# Altium integrated library Linear Technology Comparators.IntLib: 630 symbols (part 20 of 24)
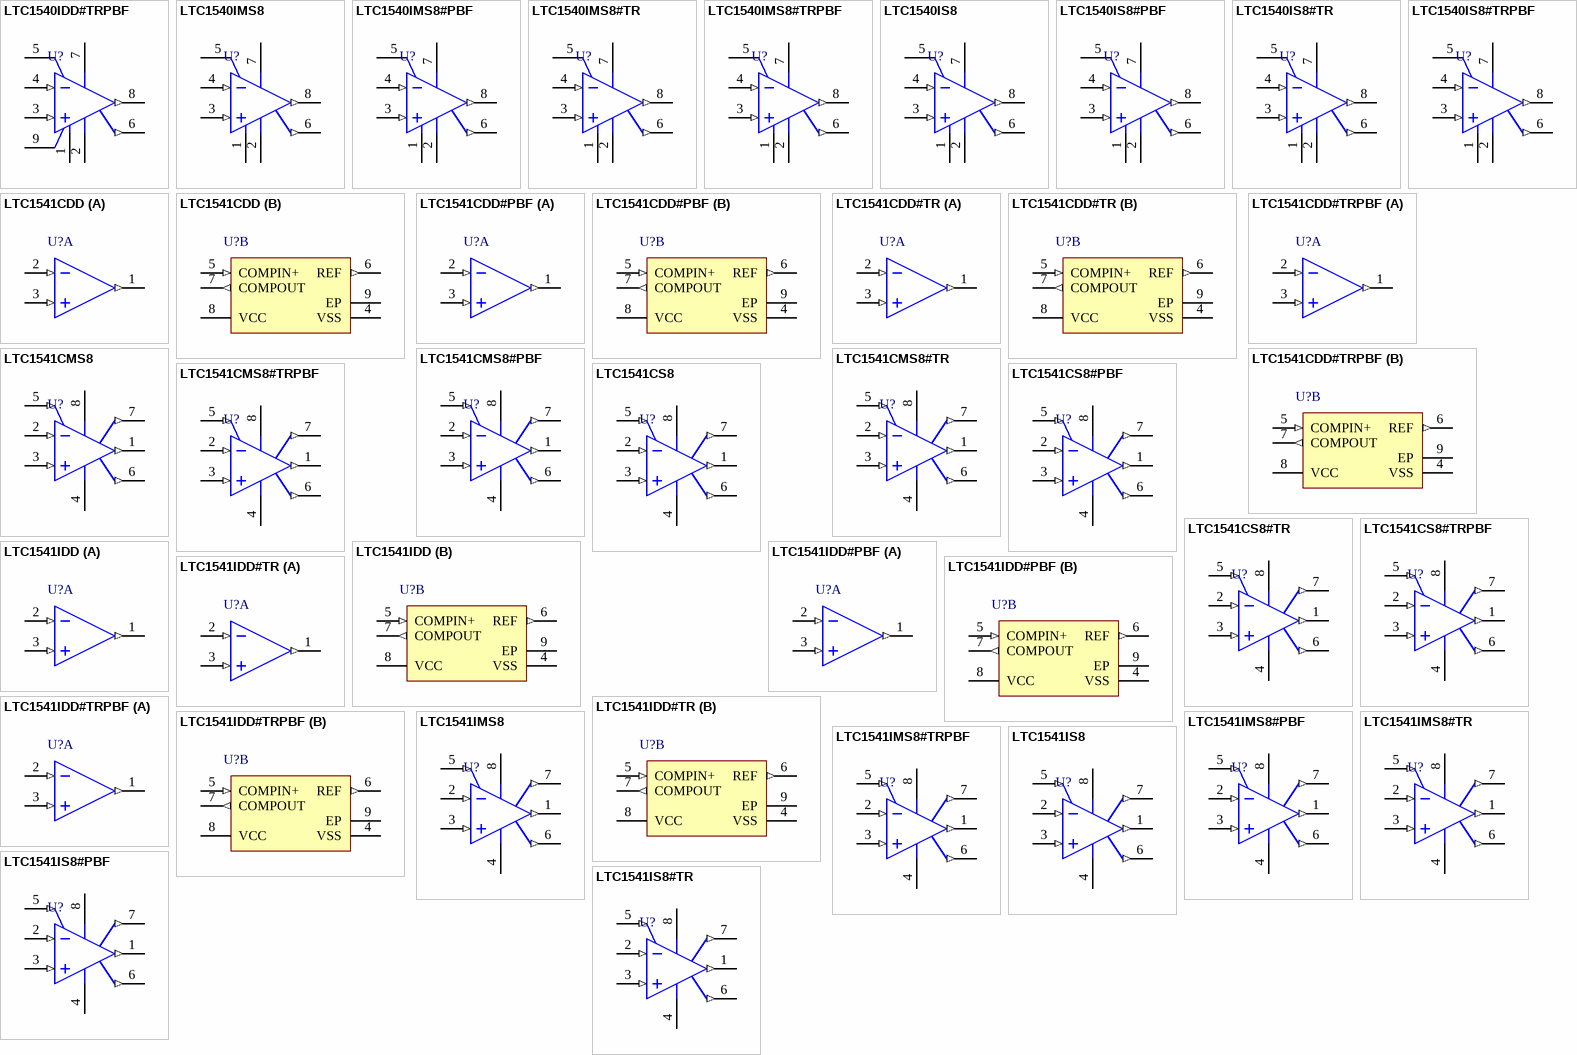
[diagram p43: symbols LTC1540IDD#TRPBF to LTC1541IS8#TR]

## LTC1541CDD#TR
designator U?
Micropower Op Amp, Comparator and Reference, 1 Channel, 2.5 to 12.6 V, 0 to +70 degC, 8-pin Plastic DFN (DD8), Tape and Reel; Generic Part Number: LTC1541; Manufacturer: Linear Technology; PartNumber: LTC1541CDD#TR; Channels (#): 1; Prop Delay (us): 8; Supply Current (uA) Guaranteed: 10; Supply Current (uA) Typical: 5; Vs Max (V): 12.6; Vs Min (V): 2.5; DatasheetVersion: Rev D; PackageReference: DD8; PackageDescription: 8-Pin Plastic DFN, Body 3 × 3 mm, Pitch 0.5 mm; Supplier 1: Digi-Key; Supplier Part Number 1: LTC1541CDD#TR-ND; Features: Reference, Op Amp, Comparator; RoHS: N; Supply Voltage Range: 2.5 to 12.6 V; Vos (mV) Guaranteed: 1; Vos (mV) Typical: 1; Mounting Technology: Surface Mount; Code_JEDEC: M0-229; ComponentLink1Description: Manufacturer URL; ComponentLink1URL: http://www.linear.com/; ComponentLink2Description: Datasheet; ComponentLink2URL: http://cds.linear.com/docs/en/datasheet/15412fd.pdf; ComponentLink3Description: Package Specification; ComponentLink3URL: http://cds.linear.com/docs/en/packaging/DFN_8_05-08-1698.pdf
footprint LT-DD8_V (SON, 8-Leads, Body 3x3mm, Pitch 0.5mm, Thermal Pad 2.38x1.65mm)
part A pins: 1 AMPOUT (out) "Op Amp Output. The output can swing from rail-to-rail while driving a capacitive load of up to 1000pF. The output can source and sink 0.7mA (min).", 2 AMPIN- (in) "Inverting Input of Op Amp. The input common mode ranges from VSS to (VCC - 1.3V). The input current is typically 10pA at 25degreesC.", 3 AMPIN+ (in) "Noninverting Input of Op Amp. The input common mode ranges from VSS to (VCC - 1.3V). The input current is typically 10pA at 25degreesC."
part B pins: 4 VSS (power) "Negative Supply or Ground Connection.", 5 COMPIN+ (in) "Noninverting Input of Comparator. The input common mode ranges from VSS to (VCC - 1.3V). The input current is typically 10pA at 25degreesC.", 6 REF (out) "Reference Output. VREF = 1.2V +/-1% over industrial temperature range, and is also connected to inverting comparator input internally. This device can source up to 2mA and sink up to 20uA. The output can drive a bypass (See Datasheet)", 7 COMPOUT (out) "Comparator Output.The output can source 20mA and sink 5mA.", 8 VCC (power) "Positive Supply, 2.5V =< VCC =< 12.6V. The supply bypass capacitors are not required if the supply impedance is low. For single supply applications, it is a good general practice to bypass VCC with a 0.1uF capacitor to (See Datasheet)", 9 EP "Exposed Pad."

## LTC1541CDD#TRPBF
designator U?
Micropower Op Amp, Comparator and Reference, 1 Channel, 2.5 to 12.6 V, 0 to +70 degC, 8-pin Plastic DFN (DD8), Tape and Reel; Generic Part Number: LTC1541; Manufacturer: Linear Technology; PartNumber: LTC1541CDD#TRPBF; Channels (#): 1; Prop Delay (us): 8; Supply Current (uA) Guaranteed: 10; Supply Current (uA) Typical: 5; Vs Max (V): 12.6; Vs Min (V): 2.5; DatasheetVersion: Rev D; PackageReference: DD8; PackageDescription: 8-Pin Plastic DFN, Body 3 × 3 mm, Pitch 0.5 mm; Supplier 1: Digi-Key; Supplier Part Number 1: LTC1541CDD#TRPBF-ND; Features: Reference, Op Amp, Comparator; RoHS: Y; Supply Voltage Range: 2.5 to 12.6 V; Vos (mV) Guaranteed: 1; Vos (mV) Typical: 1; Mounting Technology: Surface Mount; Code_JEDEC: M0-229; ComponentLink1Description: Manufacturer URL; ComponentLink1URL: http://www.linear.com/; ComponentLink2Description: Datasheet; ComponentLink2URL: http://cds.linear.com/docs/en/datasheet/15412fd.pdf; ComponentLink3Description: Package Specification; ComponentLink3URL: http://cds.linear.com/docs/en/packaging/DFN_8_05-08-1698.pdf
footprint LT-DD8_V (SON, 8-Leads, Body 3x3mm, Pitch 0.5mm, Thermal Pad 2.38x1.65mm)
part A pins: 1 AMPOUT (out) "Op Amp Output. The output can swing from rail-to-rail while driving a capacitive load of up to 1000pF. The output can source and sink 0.7mA (min).", 2 AMPIN- (in) "Inverting Input of Op Amp. The input common mode ranges from VSS to (VCC - 1.3V). The input current is typically 10pA at 25degreesC.", 3 AMPIN+ (in) "Noninverting Input of Op Amp. The input common mode ranges from VSS to (VCC - 1.3V). The input current is typically 10pA at 25degreesC."
part B pins: 4 VSS (power) "Negative Supply or Ground Connection.", 5 COMPIN+ (in) "Noninverting Input of Comparator. The input common mode ranges from VSS to (VCC - 1.3V). The input current is typically 10pA at 25degreesC.", 6 REF (out) "Reference Output. VREF = 1.2V +/-1% over industrial temperature range, and is also connected to inverting comparator input internally. This device can source up to 2mA and sink up to 20uA. The output can drive a bypass (See Datasheet)", 7 COMPOUT (out) "Comparator Output.The output can source 20mA and sink 5mA.", 8 VCC (power) "Positive Supply, 2.5V =< VCC =< 12.6V. The supply bypass capacitors are not required if the supply impedance is low. For single supply applications, it is a good general practice to bypass VCC with a 0.1uF capacitor to (See Datasheet)", 9 EP "Exposed Pad."

## LTC1541CMS8
designator U?
Micropower Op Amp, Comparator and Reference, 1 Channel, 2.5 to 12.6 V, 0 to +70 degC, 8-pin Plastic MSOP (MS8); Generic Part Number: LTC1541; Manufacturer: Linear Technology; PartNumber: LTC1541CMS8; Channels (#): 1; Prop Delay (us): 8; Supply Current (uA) Guaranteed: 10; Supply Current (uA) Typical: 5; Vs Max (V): 12.6; Vs Min (V): 2.5; DatasheetVersion: Rev D; PackageReference: MS8; PackageDescription: 8-Pin Plastic MSOP, Body 3 x 3 mm, Pitch 0.65 mm; Supplier 1: Digi-Key; Supplier Part Number 1: LTC1541CMS8-ND; Features: Reference, Op Amp, Comparator; RoHS: N; Supply Voltage Range: 2.5 to 12.6 V; Vos (mV) Guaranteed: 1; Vos (mV) Typical: 1; Mounting Technology: Surface Mount; ComponentLink1Description: Manufacturer URL; ComponentLink1URL: http://www.linear.com/; ComponentLink2Description: Datasheet; ComponentLink2URL: http://cds.linear.com/docs/en/datasheet/15412fd.pdf; ComponentLink3Description: Package Specification; ComponentLink3URL: http://cds.linear.com/docs/en/packaging/MSOP_8_05-08-1660.pdf
footprint LT-MS8_N (SOP, 8-Leads, Body 3x3mm, Pitch 0.65mm, IPC Medium Density)
footprint LT-MS8_L (SOP, 8-Leads, Body 3x3mm, Pitch 0.65mm, IPC High Density)
footprint LT-MS8_M (SOP, 8-Leads, Body 3x3mm, Pitch 0.65mm, IPC Low Density)
pins: 1 AMPOUT (out), 2 AMPIN- (in), 3 AMPIN+ (in), 4 VSS (power), 5 COMPIN+ (in), 6 REF (out), 7 COMPOUT (out), 8 VCC (power)

## LTC1541CMS8#PBF
designator U?
Micropower Op Amp, Comparator and Reference, 1 Channel, 2.5 to 12.6 V, 0 to +70 degC, 8-pin Plastic MSOP (MS8); Generic Part Number: LTC1541; Manufacturer: Linear Technology; PartNumber: LTC1541CMS8#PBF; Channels (#): 1; Prop Delay (us): 8; Supply Current (uA) Guaranteed: 10; Supply Current (uA) Typical: 5; Vs Max (V): 12.6; Vs Min (V): 2.5; DatasheetVersion: Rev D; PackageReference: MS8; PackageDescription: 8-Pin Plastic MSOP, Body 3 x 3 mm, Pitch 0.65 mm; Supplier 1: Digi-Key; Supplier Part Number 1: LTC1541CMS8#PBF-ND; Features: Reference, Op Amp, Comparator; RoHS: Y; Supply Voltage Range: 2.5 to 12.6 V; Vos (mV) Guaranteed: 1; Vos (mV) Typical: 1; Mounting Technology: Surface Mount; ComponentLink1Description: Manufacturer URL; ComponentLink1URL: http://www.linear.com/; ComponentLink2Description: Datasheet; ComponentLink2URL: http://cds.linear.com/docs/en/datasheet/15412fd.pdf; ComponentLink3Description: Package Specification; ComponentLink3URL: http://cds.linear.com/docs/en/packaging/MSOP_8_05-08-1660.pdf
footprint LT-MS8_N (SOP, 8-Leads, Body 3x3mm, Pitch 0.65mm, IPC Medium Density)
footprint LT-MS8_L (SOP, 8-Leads, Body 3x3mm, Pitch 0.65mm, IPC High Density)
footprint LT-MS8_M (SOP, 8-Leads, Body 3x3mm, Pitch 0.65mm, IPC Low Density)
pins: 1 AMPOUT (out), 2 AMPIN- (in), 3 AMPIN+ (in), 4 VSS (power), 5 COMPIN+ (in), 6 REF (out), 7 COMPOUT (out), 8 VCC (power)

## LTC1541CMS8#TR
designator U?
Micropower Op Amp, Comparator and Reference, 1 Channel, 2.5 to 12.6 V, 0 to +70 degC, 8-pin Plastic MSOP (MS8), Tape and Reel; Generic Part Number: LTC1541; Manufacturer: Linear Technology; PartNumber: LTC1541CMS8#TR; Channels (#): 1; Prop Delay (us): 8; Supply Current (uA) Guaranteed: 10; Supply Current (uA) Typical: 5; Vs Max (V): 12.6; Vs Min (V): 2.5; DatasheetVersion: Rev D; PackageReference: MS8; PackageDescription: 8-Pin Plastic MSOP, Body 3 x 3 mm, Pitch 0.65 mm; Supplier 1: Digi-Key; Supplier Part Number 1: LTC1541CMS8#TR-ND; Features: Reference, Op Amp, Comparator; RoHS: N; Supply Voltage Range: 2.5 to 12.6 V; Vos (mV) Guaranteed: 1; Vos (mV) Typical: 1; Mounting Technology: Surface Mount; ComponentLink1Description: Manufacturer URL; ComponentLink1URL: http://www.linear.com/; ComponentLink2Description: Datasheet; ComponentLink2URL: http://cds.linear.com/docs/en/datasheet/15412fd.pdf; ComponentLink3Description: Package Specification; ComponentLink3URL: http://cds.linear.com/docs/en/packaging/MSOP_8_05-08-1660.pdf
footprint LT-MS8_N (SOP, 8-Leads, Body 3x3mm, Pitch 0.65mm, IPC Medium Density)
footprint LT-MS8_L (SOP, 8-Leads, Body 3x3mm, Pitch 0.65mm, IPC High Density)
footprint LT-MS8_M (SOP, 8-Leads, Body 3x3mm, Pitch 0.65mm, IPC Low Density)
pins: 1 AMPOUT (out), 2 AMPIN- (in), 3 AMPIN+ (in), 4 VSS (power), 5 COMPIN+ (in), 6 REF (out), 7 COMPOUT (out), 8 VCC (power)

## LTC1541CMS8#TRPBF
designator U?
Micropower Op Amp, Comparator and Reference, 1 Channel, 2.5 to 12.6 V, 0 to +70 degC, 8-pin Plastic MSOP (MS8), Tape and Reel; Generic Part Number: LTC1541; Manufacturer: Linear Technology; PartNumber: LTC1541CMS8#TRPBF; Channels (#): 1; Prop Delay (us): 8; Supply Current (uA) Guaranteed: 10; Supply Current (uA) Typical: 5; Vs Max (V): 12.6; Vs Min (V): 2.5; DatasheetVersion: Rev D; PackageReference: MS8; PackageDescription: 8-Pin Plastic MSOP, Body 3 x 3 mm, Pitch 0.65 mm; Supplier 1: Digi-Key; Supplier Part Number 1: LTC1541CMS8#TRPBF-ND; Supplier 2: Newark; Supplier Part Number 2: 56M1887; Features: Reference, Op Amp, Comparator; RoHS: Y; Supply Voltage Range: 2.5 to 12.6 V; Vos (mV) Guaranteed: 1; Vos (mV) Typical: 1; Mounting Technology: Surface Mount; ComponentLink1Description: Manufacturer URL; ComponentLink1URL: http://www.linear.com/; ComponentLink2Description: Datasheet; ComponentLink2URL: http://cds.linear.com/docs/en/datasheet/15412fd.pdf; ComponentLink3Description: Package Specification; ComponentLink3URL: http://cds.linear.com/docs/en/packaging/MSOP_8_05-08-1660.pdf
footprint LT-MS8_N (SOP, 8-Leads, Body 3x3mm, Pitch 0.65mm, IPC Medium Density)
footprint LT-MS8_L (SOP, 8-Leads, Body 3x3mm, Pitch 0.65mm, IPC High Density)
footprint LT-MS8_M (SOP, 8-Leads, Body 3x3mm, Pitch 0.65mm, IPC Low Density)
pins: 1 AMPOUT (out), 2 AMPIN- (in), 3 AMPIN+ (in), 4 VSS (power), 5 COMPIN+ (in), 6 REF (out), 7 COMPOUT (out), 8 VCC (power)

## LTC1541CS8
designator U?
Micropower Op Amp, Comparator and Reference, 1 Channel, 2.5 to 12.6 V, 0 to +70 degC, 8-pin SOP (S8); Generic Part Number: LTC1541; Manufacturer: Linear Technology; PartNumber: LTC1541CS8; Channels (#): 1; Prop Delay (us): 8; Supply Current (uA) Guaranteed: 10; Supply Current (uA) Typical: 5; Vs Max (V): 12.6; Vs Min (V): 2.5; DatasheetVersion: Rev D; PackageReference: S8; PackageDescription: 8-Pin Plastic Small Outline (Narrow .150 Inch), Body 4.9 x 3.9 mm, Pitch 1.27 mm; Supplier 1: Digi-Key; Supplier Part Number 1: LTC1541CS8-ND; Features: Reference, Op Amp, Comparator; RoHS: N; Supply Voltage Range: 2.5 to 12.6 V; Vos (mV) Guaranteed: 1; Vos (mV) Typical: 1; Mounting Technology: Surface Mount; ComponentLink1Description: Manufacturer URL; ComponentLink1URL: http://www.linear.com/; ComponentLink2Description: Datasheet; ComponentLink2URL: http://cds.linear.com/docs/en/datasheet/15412fd.pdf; ComponentLink3Description: Package Specification; ComponentLink3URL: http://cds.linear.com/docs/en/packaging/05081610_G_SO8.pdf
footprint LT-S8_N (SOP, 8-Leads, Body 4.9x3.9mm, Pitch 1.27mm, IPC Medium Density)
footprint LT-S8_L (SOP, 8-Leads, Body 4.9x3.9mm, Pitch 1.27mm, IPC High Density)
footprint LT-S8_M (SOP, 8-Leads, Body 4.9x3.9mm, Pitch 1.27mm, IPC Low Density)
pins: 1 AMPOUT (out), 2 AMPIN- (in), 3 AMPIN+ (in), 4 VSS (power), 5 COMPIN+ (in), 6 REF (out), 7 COMPOUT (out), 8 VCC (power)

## LTC1541CS8#PBF
designator U?
Micropower Op Amp, Comparator and Reference, 1 Channel, 2.5 to 12.6 V, 0 to +70 degC, 8-pin SOP (S8); Generic Part Number: LTC1541; Manufacturer: Linear Technology; PartNumber: LTC1541CS8#PBF; Channels (#): 1; Prop Delay (us): 8; Supply Current (uA) Guaranteed: 10; Supply Current (uA) Typical: 5; Vs Max (V): 12.6; Vs Min (V): 2.5; DatasheetVersion: Rev D; PackageReference: S8; PackageDescription: 8-Pin Plastic Small Outline (Narrow .150 Inch), Body 4.9 x 3.9 mm, Pitch 1.27 mm; Supplier 1: Digi-Key; Supplier Part Number 1: LTC1541CS8#PBF-ND; Supplier 2: Newark; Supplier Part Number 2: 56M1889; Features: Reference, Op Amp, Comparator; RoHS: Y; Supply Voltage Range: 2.5 to 12.6 V; Vos (mV) Guaranteed: 1; Vos (mV) Typical: 1; Mounting Technology: Surface Mount; ComponentLink1Description: Manufacturer URL; ComponentLink1URL: http://www.linear.com/; ComponentLink2Description: Datasheet; ComponentLink2URL: http://cds.linear.com/docs/en/datasheet/15412fd.pdf; ComponentLink3Description: Package Specification; ComponentLink3URL: http://cds.linear.com/docs/en/packaging/05081610_G_SO8.pdf
footprint LT-S8_N (SOP, 8-Leads, Body 4.9x3.9mm, Pitch 1.27mm, IPC Medium Density)
footprint LT-S8_L (SOP, 8-Leads, Body 4.9x3.9mm, Pitch 1.27mm, IPC High Density)
footprint LT-S8_M (SOP, 8-Leads, Body 4.9x3.9mm, Pitch 1.27mm, IPC Low Density)
pins: 1 AMPOUT (out), 2 AMPIN- (in), 3 AMPIN+ (in), 4 VSS (power), 5 COMPIN+ (in), 6 REF (out), 7 COMPOUT (out), 8 VCC (power)

## LTC1541CS8#TR
designator U?
Micropower Op Amp, Comparator and Reference, 1 Channel, 2.5 to 12.6 V, 0 to +70 degC, 8-pin SOP (S8), Tape and Reel; Generic Part Number: LTC1541; Manufacturer: Linear Technology; PartNumber: LTC1541CS8#TR; Channels (#): 1; Prop Delay (us): 8; Supply Current (uA) Guaranteed: 10; Supply Current (uA) Typical: 5; Vs Max (V): 12.6; Vs Min (V): 2.5; DatasheetVersion: Rev D; PackageReference: S8; PackageDescription: 8-Pin Plastic Small Outline (Narrow .150 Inch), Body 4.9 x 3.9 mm, Pitch 1.27 mm; Supplier 1: Digi-Key; Supplier Part Number 1: LTC1541CS8#TR-ND; Features: Reference, Op Amp, Comparator; RoHS: N; Supply Voltage Range: 2.5 to 12.6 V; Vos (mV) Guaranteed: 1; Vos (mV) Typical: 1; Mounting Technology: Surface Mount; ComponentLink1Description: Manufacturer URL; ComponentLink1URL: http://www.linear.com/; ComponentLink2Description: Datasheet; ComponentLink2URL: http://cds.linear.com/docs/en/datasheet/15412fd.pdf; ComponentLink3Description: Package Specification; ComponentLink3URL: http://cds.linear.com/docs/en/packaging/05081610_G_SO8.pdf
footprint LT-S8_N (SOP, 8-Leads, Body 4.9x3.9mm, Pitch 1.27mm, IPC Medium Density)
footprint LT-S8_L (SOP, 8-Leads, Body 4.9x3.9mm, Pitch 1.27mm, IPC High Density)
footprint LT-S8_M (SOP, 8-Leads, Body 4.9x3.9mm, Pitch 1.27mm, IPC Low Density)
pins: 1 AMPOUT (out), 2 AMPIN- (in), 3 AMPIN+ (in), 4 VSS (power), 5 COMPIN+ (in), 6 REF (out), 7 COMPOUT (out), 8 VCC (power)

## LTC1541CS8#TRPBF
designator U?
Micropower Op Amp, Comparator and Reference, 1 Channel, 2.5 to 12.6 V, 0 to +70 degC, 8-pin SOP (S8), Tape and Reel; Generic Part Number: LTC1541; Manufacturer: Linear Technology; PartNumber: LTC1541CS8#TRPBF; Channels (#): 1; Prop Delay (us): 8; Supply Current (uA) Guaranteed: 10; Supply Current (uA) Typical: 5; Vs Max (V): 12.6; Vs Min (V): 2.5; DatasheetVersion: Rev D; PackageReference: S8; PackageDescription: 8-Pin Plastic Small Outline (Narrow .150 Inch), Body 4.9 x 3.9 mm, Pitch 1.27 mm; Supplier 1: Digi-Key; Supplier Part Number 1: LTC1541CS8#TRPBF-ND; Features: Reference, Op Amp, Comparator; RoHS: Y; Supply Voltage Range: 2.5 to 12.6 V; Vos (mV) Guaranteed: 1; Vos (mV) Typical: 1; Mounting Technology: Surface Mount; ComponentLink1Description: Manufacturer URL; ComponentLink1URL: http://www.linear.com/; ComponentLink2Description: Datasheet; ComponentLink2URL: http://cds.linear.com/docs/en/datasheet/15412fd.pdf; ComponentLink3Description: Package Specification; ComponentLink3URL: http://cds.linear.com/docs/en/packaging/05081610_G_SO8.pdf
footprint LT-S8_N (SOP, 8-Leads, Body 4.9x3.9mm, Pitch 1.27mm, IPC Medium Density)
footprint LT-S8_L (SOP, 8-Leads, Body 4.9x3.9mm, Pitch 1.27mm, IPC High Density)
footprint LT-S8_M (SOP, 8-Leads, Body 4.9x3.9mm, Pitch 1.27mm, IPC Low Density)
pins: 1 AMPOUT (out), 2 AMPIN- (in), 3 AMPIN+ (in), 4 VSS (power), 5 COMPIN+ (in), 6 REF (out), 7 COMPOUT (out), 8 VCC (power)

## LTC1541IDD
designator U?
Micropower Op Amp, Comparator and Reference, 1 Channel, 2.5 to 12.6 V, -40 to +85 degC, 8-pin Plastic DFN (DD8); Generic Part Number: LTC1541; Manufacturer: Linear Technology; PartNumber: LTC1541IDD; Channels (#): 1; Prop Delay (us): 8; Supply Current (uA) Guaranteed: 10; Supply Current (uA) Typical: 5; Vs Max (V): 12.6; Vs Min (V): 2.5; DatasheetVersion: Rev D; PackageReference: DD8; PackageDescription: 8-Pin Plastic DFN, Body 3 × 3 mm, Pitch 0.5 mm; Supplier 1: Digi-Key; Supplier Part Number 1: LTC1541IDD-ND; Features: Reference, Op Amp, Comparator; RoHS: N; Supply Voltage Range: 2.5 to 12.6 V; Vos (mV) Guaranteed: 1; Vos (mV) Typical: 1; Mounting Technology: Surface Mount; Code_JEDEC: M0-229; ComponentLink1Description: Manufacturer URL; ComponentLink1URL: http://www.linear.com/; ComponentLink2Description: Datasheet; ComponentLink2URL: http://cds.linear.com/docs/en/datasheet/15412fd.pdf; ComponentLink3Description: Package Specification; ComponentLink3URL: http://cds.linear.com/docs/en/packaging/DFN_8_05-08-1698.pdf
footprint LT-DD8_V (SON, 8-Leads, Body 3x3mm, Pitch 0.5mm, Thermal Pad 2.38x1.65mm)
part A pins: 1 AMPOUT (out) "Op Amp Output. The output can swing from rail-to-rail while driving a capacitive load of up to 1000pF. The output can source and sink 0.7mA (min).", 2 AMPIN- (in) "Inverting Input of Op Amp. The input common mode ranges from VSS to (VCC - 1.3V). The input current is typically 10pA at 25degreesC.", 3 AMPIN+ (in) "Noninverting Input of Op Amp. The input common mode ranges from VSS to (VCC - 1.3V). The input current is typically 10pA at 25degreesC."
part B pins: 4 VSS (power) "Negative Supply or Ground Connection.", 5 COMPIN+ (in) "Noninverting Input of Comparator. The input common mode ranges from VSS to (VCC - 1.3V). The input current is typically 10pA at 25degreesC.", 6 REF (out) "Reference Output. VREF = 1.2V +/-1% over industrial temperature range, and is also connected to inverting comparator input internally. This device can source up to 2mA and sink up to 20uA. The output can drive a bypass (See Datasheet)", 7 COMPOUT (out) "Comparator Output.The output can source 20mA and sink 5mA.", 8 VCC (power) "Positive Supply, 2.5V =< VCC =< 12.6V. The supply bypass capacitors are not required if the supply impedance is low. For single supply applications, it is a good general practice to bypass VCC with a 0.1uF capacitor to (See Datasheet)", 9 EP "Exposed Pad."

## LTC1541IDD#PBF
designator U?
Micropower Op Amp, Comparator and Reference, 1 Channel, 2.5 to 12.6 V, -40 to +85 degC, 8-pin Plastic DFN (DD8); Generic Part Number: LTC1541; Manufacturer: Linear Technology; PartNumber: LTC1541IDD#PBF; Channels (#): 1; Prop Delay (us): 8; Supply Current (uA) Guaranteed: 10; Supply Current (uA) Typical: 5; Vs Max (V): 12.6; Vs Min (V): 2.5; DatasheetVersion: Rev D; PackageReference: DD8; PackageDescription: 8-Pin Plastic DFN, Body 3 × 3 mm, Pitch 0.5 mm; Supplier 1: Digi-Key; Supplier Part Number 1: LTC1541IDD#PBF-ND; Supplier 2: Newark; Supplier Part Number 2: 56M1893; Features: Reference, Op Amp, Comparator; RoHS: Y; Supply Voltage Range: 2.5 to 12.6 V; Vos (mV) Guaranteed: 1; Vos (mV) Typical: 1; Mounting Technology: Surface Mount; Code_JEDEC: M0-229; ComponentLink1Description: Manufacturer URL; ComponentLink1URL: http://www.linear.com/; ComponentLink2Description: Datasheet; ComponentLink2URL: http://cds.linear.com/docs/en/datasheet/15412fd.pdf; ComponentLink3Description: Package Specification; ComponentLink3URL: http://cds.linear.com/docs/en/packaging/DFN_8_05-08-1698.pdf
footprint LT-DD8_V (SON, 8-Leads, Body 3x3mm, Pitch 0.5mm, Thermal Pad 2.38x1.65mm)
part A pins: 1 AMPOUT (out) "Op Amp Output. The output can swing from rail-to-rail while driving a capacitive load of up to 1000pF. The output can source and sink 0.7mA (min).", 2 AMPIN- (in) "Inverting Input of Op Amp. The input common mode ranges from VSS to (VCC - 1.3V). The input current is typically 10pA at 25degreesC.", 3 AMPIN+ (in) "Noninverting Input of Op Amp. The input common mode ranges from VSS to (VCC - 1.3V). The input current is typically 10pA at 25degreesC."
part B pins: 4 VSS (power) "Negative Supply or Ground Connection.", 5 COMPIN+ (in) "Noninverting Input of Comparator. The input common mode ranges from VSS to (VCC - 1.3V). The input current is typically 10pA at 25degreesC.", 6 REF (out) "Reference Output. VREF = 1.2V +/-1% over industrial temperature range, and is also connected to inverting comparator input internally. This device can source up to 2mA and sink up to 20uA. The output can drive a bypass (See Datasheet)", 7 COMPOUT (out) "Comparator Output.The output can source 20mA and sink 5mA.", 8 VCC (power) "Positive Supply, 2.5V =< VCC =< 12.6V. The supply bypass capacitors are not required if the supply impedance is low. For single supply applications, it is a good general practice to bypass VCC with a 0.1uF capacitor to (See Datasheet)", 9 EP "Exposed Pad."

## LTC1541IDD#TR
designator U?
Micropower Op Amp, Comparator and Reference, 1 Channel, 2.5 to 12.6 V, -40 to +85 degC, 8-pin Plastic DFN (DD8), Tape and Reel; Generic Part Number: LTC1541; Manufacturer: Linear Technology; PartNumber: LTC1541IDD#TR; Channels (#): 1; Prop Delay (us): 8; Supply Current (uA) Guaranteed: 10; Supply Current (uA) Typical: 5; Vs Max (V): 12.6; Vs Min (V): 2.5; DatasheetVersion: Rev D; PackageReference: DD8; PackageDescription: 8-Pin Plastic DFN, Body 3 × 3 mm, Pitch 0.5 mm; Supplier 1: Digi-Key; Supplier Part Number 1: LTC1541IDD#TR-ND; Features: Reference, Op Amp, Comparator; RoHS: N; Supply Voltage Range: 2.5 to 12.6 V; Vos (mV) Guaranteed: 1; Vos (mV) Typical: 1; Mounting Technology: Surface Mount; Code_JEDEC: M0-229; ComponentLink1Description: Manufacturer URL; ComponentLink1URL: http://www.linear.com/; ComponentLink2Description: Datasheet; ComponentLink2URL: http://cds.linear.com/docs/en/datasheet/15412fd.pdf; ComponentLink3Description: Package Specification; ComponentLink3URL: http://cds.linear.com/docs/en/packaging/DFN_8_05-08-1698.pdf
footprint LT-DD8_V (SON, 8-Leads, Body 3x3mm, Pitch 0.5mm, Thermal Pad 2.38x1.65mm)
part A pins: 1 AMPOUT (out) "Op Amp Output. The output can swing from rail-to-rail while driving a capacitive load of up to 1000pF. The output can source and sink 0.7mA (min).", 2 AMPIN- (in) "Inverting Input of Op Amp. The input common mode ranges from VSS to (VCC - 1.3V). The input current is typically 10pA at 25degreesC.", 3 AMPIN+ (in) "Noninverting Input of Op Amp. The input common mode ranges from VSS to (VCC - 1.3V). The input current is typically 10pA at 25degreesC."
part B pins: 4 VSS (power) "Negative Supply or Ground Connection.", 5 COMPIN+ (in) "Noninverting Input of Comparator. The input common mode ranges from VSS to (VCC - 1.3V). The input current is typically 10pA at 25degreesC.", 6 REF (out) "Reference Output. VREF = 1.2V +/-1% over industrial temperature range, and is also connected to inverting comparator input internally. This device can source up to 2mA and sink up to 20uA. The output can drive a bypass (See Datasheet)", 7 COMPOUT (out) "Comparator Output.The output can source 20mA and sink 5mA.", 8 VCC (power) "Positive Supply, 2.5V =< VCC =< 12.6V. The supply bypass capacitors are not required if the supply impedance is low. For single supply applications, it is a good general practice to bypass VCC with a 0.1uF capacitor to (See Datasheet)", 9 EP "Exposed Pad."

## LTC1541IDD#TRPBF
designator U?
Micropower Op Amp, Comparator and Reference, 1 Channel, 2.5 to 12.6 V, -40 to +85 degC, 8-pin Plastic DFN (DD8), Tape and Reel; Generic Part Number: LTC1541; Manufacturer: Linear Technology; PartNumber: LTC1541IDD#TRPBF; Channels (#): 1; Prop Delay (us): 8; Supply Current (uA) Guaranteed: 10; Supply Current (uA) Typical: 5; Vs Max (V): 12.6; Vs Min (V): 2.5; DatasheetVersion: Rev D; PackageReference: DD8; PackageDescription: 8-Pin Plastic DFN, Body 3 × 3 mm, Pitch 0.5 mm; Supplier 1: Digi-Key; Supplier Part Number 1: LTC1541IDD#TRPBF-ND; Features: Reference, Op Amp, Comparator; RoHS: Y; Supply Voltage Range: 2.5 to 12.6 V; Vos (mV) Guaranteed: 1; Vos (mV) Typical: 1; Mounting Technology: Surface Mount; Code_JEDEC: M0-229; ComponentLink1Description: Manufacturer URL; ComponentLink1URL: http://www.linear.com/; ComponentLink2Description: Datasheet; ComponentLink2URL: http://cds.linear.com/docs/en/datasheet/15412fd.pdf; ComponentLink3Description: Package Specification; ComponentLink3URL: http://cds.linear.com/docs/en/packaging/DFN_8_05-08-1698.pdf
footprint LT-DD8_V (SON, 8-Leads, Body 3x3mm, Pitch 0.5mm, Thermal Pad 2.38x1.65mm)
part A pins: 1 AMPOUT (out) "Op Amp Output. The output can swing from rail-to-rail while driving a capacitive load of up to 1000pF. The output can source and sink 0.7mA (min).", 2 AMPIN- (in) "Inverting Input of Op Amp. The input common mode ranges from VSS to (VCC - 1.3V). The input current is typically 10pA at 25degreesC.", 3 AMPIN+ (in) "Noninverting Input of Op Amp. The input common mode ranges from VSS to (VCC - 1.3V). The input current is typically 10pA at 25degreesC."
part B pins: 4 VSS (power) "Negative Supply or Ground Connection.", 5 COMPIN+ (in) "Noninverting Input of Comparator. The input common mode ranges from VSS to (VCC - 1.3V). The input current is typically 10pA at 25degreesC.", 6 REF (out) "Reference Output. VREF = 1.2V +/-1% over industrial temperature range, and is also connected to inverting comparator input internally. This device can source up to 2mA and sink up to 20uA. The output can drive a bypass (See Datasheet)", 7 COMPOUT (out) "Comparator Output.The output can source 20mA and sink 5mA.", 8 VCC (power) "Positive Supply, 2.5V =< VCC =< 12.6V. The supply bypass capacitors are not required if the supply impedance is low. For single supply applications, it is a good general practice to bypass VCC with a 0.1uF capacitor to (See Datasheet)", 9 EP "Exposed Pad."

## LTC1541IMS8
designator U?
Micropower Op Amp, Comparator and Reference, 1 Channel, 2.5 to 12.6 V, -40 to +85 degC, 8-pin Plastic MSOP (MS8); Generic Part Number: LTC1541; Manufacturer: Linear Technology; PartNumber: LTC1541IMS8; Channels (#): 1; Prop Delay (us): 8; Supply Current (uA) Guaranteed: 10; Supply Current (uA) Typical: 5; Vs Max (V): 12.6; Vs Min (V): 2.5; DatasheetVersion: Rev D; PackageReference: MS8; PackageDescription: 8-Pin Plastic MSOP, Body 3 x 3 mm, Pitch 0.65 mm; Supplier 1: Digi-Key; Supplier Part Number 1: LTC1541IMS8-ND; Features: Reference, Op Amp, Comparator; RoHS: N; Supply Voltage Range: 2.5 to 12.6 V; Vos (mV) Guaranteed: 1; Vos (mV) Typical: 1; Mounting Technology: Surface Mount; ComponentLink1Description: Manufacturer URL; ComponentLink1URL: http://www.linear.com/; ComponentLink2Description: Datasheet; ComponentLink2URL: http://cds.linear.com/docs/en/datasheet/15412fd.pdf; ComponentLink3Description: Package Specification; ComponentLink3URL: http://cds.linear.com/docs/en/packaging/MSOP_8_05-08-1660.pdf
footprint LT-MS8_N (SOP, 8-Leads, Body 3x3mm, Pitch 0.65mm, IPC Medium Density)
footprint LT-MS8_L (SOP, 8-Leads, Body 3x3mm, Pitch 0.65mm, IPC High Density)
footprint LT-MS8_M (SOP, 8-Leads, Body 3x3mm, Pitch 0.65mm, IPC Low Density)
pins: 1 AMPOUT (out), 2 AMPIN- (in), 3 AMPIN+ (in), 4 VSS (power), 5 COMPIN+ (in), 6 REF (out), 7 COMPOUT (out), 8 VCC (power)

## LTC1541IMS8#PBF
designator U?
Micropower Op Amp, Comparator and Reference, 1 Channel, 2.5 to 12.6 V, -40 to +85 degC, 8-pin Plastic MSOP (MS8); Generic Part Number: LTC1541; Manufacturer: Linear Technology; PartNumber: LTC1541IMS8#PBF; Channels (#): 1; Prop Delay (us): 8; Supply Current (uA) Guaranteed: 10; Supply Current (uA) Typical: 5; Vs Max (V): 12.6; Vs Min (V): 2.5; DatasheetVersion: Rev D; PackageReference: MS8; PackageDescription: 8-Pin Plastic MSOP, Body 3 x 3 mm, Pitch 0.65 mm; Supplier 1: Digi-Key; Supplier Part Number 1: LTC1541IMS8#PBF-ND; Supplier 2: Newark; Supplier Part Number 2: 56M1897; Features: Reference, Op Amp, Comparator; RoHS: Y; Supply Voltage Range: 2.5 to 12.6 V; Vos (mV) Guaranteed: 1; Vos (mV) Typical: 1; Mounting Technology: Surface Mount; ComponentLink1Description: Manufacturer URL; ComponentLink1URL: http://www.linear.com/; ComponentLink2Description: Datasheet; ComponentLink2URL: http://cds.linear.com/docs/en/datasheet/15412fd.pdf; ComponentLink3Description: Package Specification; ComponentLink3URL: http://cds.linear.com/docs/en/packaging/MSOP_8_05-08-1660.pdf
footprint LT-MS8_N (SOP, 8-Leads, Body 3x3mm, Pitch 0.65mm, IPC Medium Density)
footprint LT-MS8_L (SOP, 8-Leads, Body 3x3mm, Pitch 0.65mm, IPC High Density)
footprint LT-MS8_M (SOP, 8-Leads, Body 3x3mm, Pitch 0.65mm, IPC Low Density)
pins: 1 AMPOUT (out), 2 AMPIN- (in), 3 AMPIN+ (in), 4 VSS (power), 5 COMPIN+ (in), 6 REF (out), 7 COMPOUT (out), 8 VCC (power)

## LTC1541IMS8#TR
designator U?
Micropower Op Amp, Comparator and Reference, 1 Channel, 2.5 to 12.6 V, -40 to +85 degC, 8-pin Plastic MSOP (MS8), Tape and Reel; Generic Part Number: LTC1541; Manufacturer: Linear Technology; PartNumber: LTC1541IMS8#TR; Channels (#): 1; Prop Delay (us): 8; Supply Current (uA) Guaranteed: 10; Supply Current (uA) Typical: 5; Vs Max (V): 12.6; Vs Min (V): 2.5; DatasheetVersion: Rev D; PackageReference: MS8; PackageDescription: 8-Pin Plastic MSOP, Body 3 x 3 mm, Pitch 0.65 mm; Supplier 1: Digi-Key; Supplier Part Number 1: LTC1541IMS8#TR-ND; Features: Reference, Op Amp, Comparator; RoHS: N; Supply Voltage Range: 2.5 to 12.6 V; Vos (mV) Guaranteed: 1; Vos (mV) Typical: 1; Mounting Technology: Surface Mount; ComponentLink1Description: Manufacturer URL; ComponentLink1URL: http://www.linear.com/; ComponentLink2Description: Datasheet; ComponentLink2URL: http://cds.linear.com/docs/en/datasheet/15412fd.pdf; ComponentLink3Description: Package Specification; ComponentLink3URL: http://cds.linear.com/docs/en/packaging/MSOP_8_05-08-1660.pdf
footprint LT-MS8_N (SOP, 8-Leads, Body 3x3mm, Pitch 0.65mm, IPC Medium Density)
footprint LT-MS8_L (SOP, 8-Leads, Body 3x3mm, Pitch 0.65mm, IPC High Density)
footprint LT-MS8_M (SOP, 8-Leads, Body 3x3mm, Pitch 0.65mm, IPC Low Density)
pins: 1 AMPOUT (out), 2 AMPIN- (in), 3 AMPIN+ (in), 4 VSS (power), 5 COMPIN+ (in), 6 REF (out), 7 COMPOUT (out), 8 VCC (power)

## LTC1541IMS8#TRPBF
designator U?
Micropower Op Amp, Comparator and Reference, 1 Channel, 2.5 to 12.6 V, -40 to +85 degC, 8-pin Plastic MSOP (MS8), Tape and Reel; Generic Part Number: LTC1541; Manufacturer: Linear Technology; PartNumber: LTC1541IMS8#TRPBF; Channels (#): 1; Prop Delay (us): 8; Supply Current (uA) Guaranteed: 10; Supply Current (uA) Typical: 5; Vs Max (V): 12.6; Vs Min (V): 2.5; DatasheetVersion: Rev D; PackageReference: MS8; PackageDescription: 8-Pin Plastic MSOP, Body 3 x 3 mm, Pitch 0.65 mm; Supplier 1: Digi-Key; Supplier Part Number 1: LTC1541IMS8#TRPBF-ND; Features: Reference, Op Amp, Comparator; RoHS: Y; Supply Voltage Range: 2.5 to 12.6 V; Vos (mV) Guaranteed: 1; Vos (mV) Typical: 1; Mounting Technology: Surface Mount; ComponentLink1Description: Manufacturer URL; ComponentLink1URL: http://www.linear.com/; ComponentLink2Description: Datasheet; ComponentLink2URL: http://cds.linear.com/docs/en/datasheet/15412fd.pdf; ComponentLink3Description: Package Specification; ComponentLink3URL: http://cds.linear.com/docs/en/packaging/MSOP_8_05-08-1660.pdf
footprint LT-MS8_N (SOP, 8-Leads, Body 3x3mm, Pitch 0.65mm, IPC Medium Density)
footprint LT-MS8_L (SOP, 8-Leads, Body 3x3mm, Pitch 0.65mm, IPC High Density)
footprint LT-MS8_M (SOP, 8-Leads, Body 3x3mm, Pitch 0.65mm, IPC Low Density)
pins: 1 AMPOUT (out), 2 AMPIN- (in), 3 AMPIN+ (in), 4 VSS (power), 5 COMPIN+ (in), 6 REF (out), 7 COMPOUT (out), 8 VCC (power)

## LTC1541IS8
designator U?
Micropower Op Amp, Comparator and Reference, 1 Channel, 2.5 to 12.6 V, -40 to +85 degC, 8-pin SOP (S8); Generic Part Number: LTC1541; Manufacturer: Linear Technology; PartNumber: LTC1541IS8; Channels (#): 1; Prop Delay (us): 8; Supply Current (uA) Guaranteed: 10; Supply Current (uA) Typical: 5; Vs Max (V): 12.6; Vs Min (V): 2.5; DatasheetVersion: Rev D; PackageReference: S8; PackageDescription: 8-Pin Plastic Small Outline (Narrow .150 Inch), Body 4.9 x 3.9 mm, Pitch 1.27 mm; Supplier 1: Digi-Key; Supplier Part Number 1: LTC1541IS8-ND; Features: Reference, Op Amp, Comparator; RoHS: N; Supply Voltage Range: 2.5 to 12.6 V; Vos (mV) Guaranteed: 1; Vos (mV) Typical: 1; Mounting Technology: Surface Mount; ComponentLink1Description: Manufacturer URL; ComponentLink1URL: http://www.linear.com/; ComponentLink2Description: Datasheet; ComponentLink2URL: http://cds.linear.com/docs/en/datasheet/15412fd.pdf; ComponentLink3Description: Package Specification; ComponentLink3URL: http://cds.linear.com/docs/en/packaging/05081610_G_SO8.pdf
footprint LT-S8_N (SOP, 8-Leads, Body 4.9x3.9mm, Pitch 1.27mm, IPC Medium Density)
footprint LT-S8_L (SOP, 8-Leads, Body 4.9x3.9mm, Pitch 1.27mm, IPC High Density)
footprint LT-S8_M (SOP, 8-Leads, Body 4.9x3.9mm, Pitch 1.27mm, IPC Low Density)
pins: 1 AMPOUT (out), 2 AMPIN- (in), 3 AMPIN+ (in), 4 VSS (power), 5 COMPIN+ (in), 6 REF (out), 7 COMPOUT (out), 8 VCC (power)

## LTC1541IS8#PBF
designator U?
Micropower Op Amp, Comparator and Reference, 1 Channel, 2.5 to 12.6 V, -40 to +85 degC, 8-pin SOP (S8); Generic Part Number: LTC1541; Manufacturer: Linear Technology; PartNumber: LTC1541IS8#PBF; Channels (#): 1; Prop Delay (us): 8; Supply Current (uA) Guaranteed: 10; Supply Current (uA) Typical: 5; Vs Max (V): 12.6; Vs Min (V): 2.5; DatasheetVersion: Rev D; PackageReference: S8; PackageDescription: 8-Pin Plastic Small Outline (Narrow .150 Inch), Body 4.9 x 3.9 mm, Pitch 1.27 mm; Supplier 1: Digi-Key; Supplier Part Number 1: LTC1541IS8#PBF-ND; Supplier 2: Newark; Supplier Part Number 2: 56M1901; Features: Reference, Op Amp, Comparator; RoHS: Y; Supply Voltage Range: 2.5 to 12.6 V; Vos (mV) Guaranteed: 1; Vos (mV) Typical: 1; Mounting Technology: Surface Mount; ComponentLink1Description: Manufacturer URL; ComponentLink1URL: http://www.linear.com/; ComponentLink2Description: Datasheet; ComponentLink2URL: http://cds.linear.com/docs/en/datasheet/15412fd.pdf; ComponentLink3Description: Package Specification; ComponentLink3URL: http://cds.linear.com/docs/en/packaging/05081610_G_SO8.pdf
footprint LT-S8_N (SOP, 8-Leads, Body 4.9x3.9mm, Pitch 1.27mm, IPC Medium Density)
footprint LT-S8_L (SOP, 8-Leads, Body 4.9x3.9mm, Pitch 1.27mm, IPC High Density)
footprint LT-S8_M (SOP, 8-Leads, Body 4.9x3.9mm, Pitch 1.27mm, IPC Low Density)
pins: 1 AMPOUT (out), 2 AMPIN- (in), 3 AMPIN+ (in), 4 VSS (power), 5 COMPIN+ (in), 6 REF (out), 7 COMPOUT (out), 8 VCC (power)

## LTC1541IS8#TR
designator U?
Micropower Op Amp, Comparator and Reference, 1 Channel, 2.5 to 12.6 V, -40 to +85 degC, 8-pin SOP (S8), Tape and Reel; Generic Part Number: LTC1541; Manufacturer: Linear Technology; PartNumber: LTC1541IS8#TR; Channels (#): 1; Prop Delay (us): 8; Supply Current (uA) Guaranteed: 10; Supply Current (uA) Typical: 5; Vs Max (V): 12.6; Vs Min (V): 2.5; DatasheetVersion: Rev D; PackageReference: S8; PackageDescription: 8-Pin Plastic Small Outline (Narrow .150 Inch), Body 4.9 x 3.9 mm, Pitch 1.27 mm; Supplier 1: Digi-Key; Supplier Part Number 1: LTC1541IS8#TR-ND; Features: Reference, Op Amp, Comparator; RoHS: N; Supply Voltage Range: 2.5 to 12.6 V; Vos (mV) Guaranteed: 1; Vos (mV) Typical: 1; Mounting Technology: Surface Mount; ComponentLink1Description: Manufacturer URL; ComponentLink1URL: http://www.linear.com/; ComponentLink2Description: Datasheet; ComponentLink2URL: http://cds.linear.com/docs/en/datasheet/15412fd.pdf; ComponentLink3Description: Package Specification; ComponentLink3URL: http://cds.linear.com/docs/en/packaging/05081610_G_SO8.pdf
footprint LT-S8_N (SOP, 8-Leads, Body 4.9x3.9mm, Pitch 1.27mm, IPC Medium Density)
footprint LT-S8_L (SOP, 8-Leads, Body 4.9x3.9mm, Pitch 1.27mm, IPC High Density)
footprint LT-S8_M (SOP, 8-Leads, Body 4.9x3.9mm, Pitch 1.27mm, IPC Low Density)
pins: 1 AMPOUT (out), 2 AMPIN- (in), 3 AMPIN+ (in), 4 VSS (power), 5 COMPIN+ (in), 6 REF (out), 7 COMPOUT (out), 8 VCC (power)

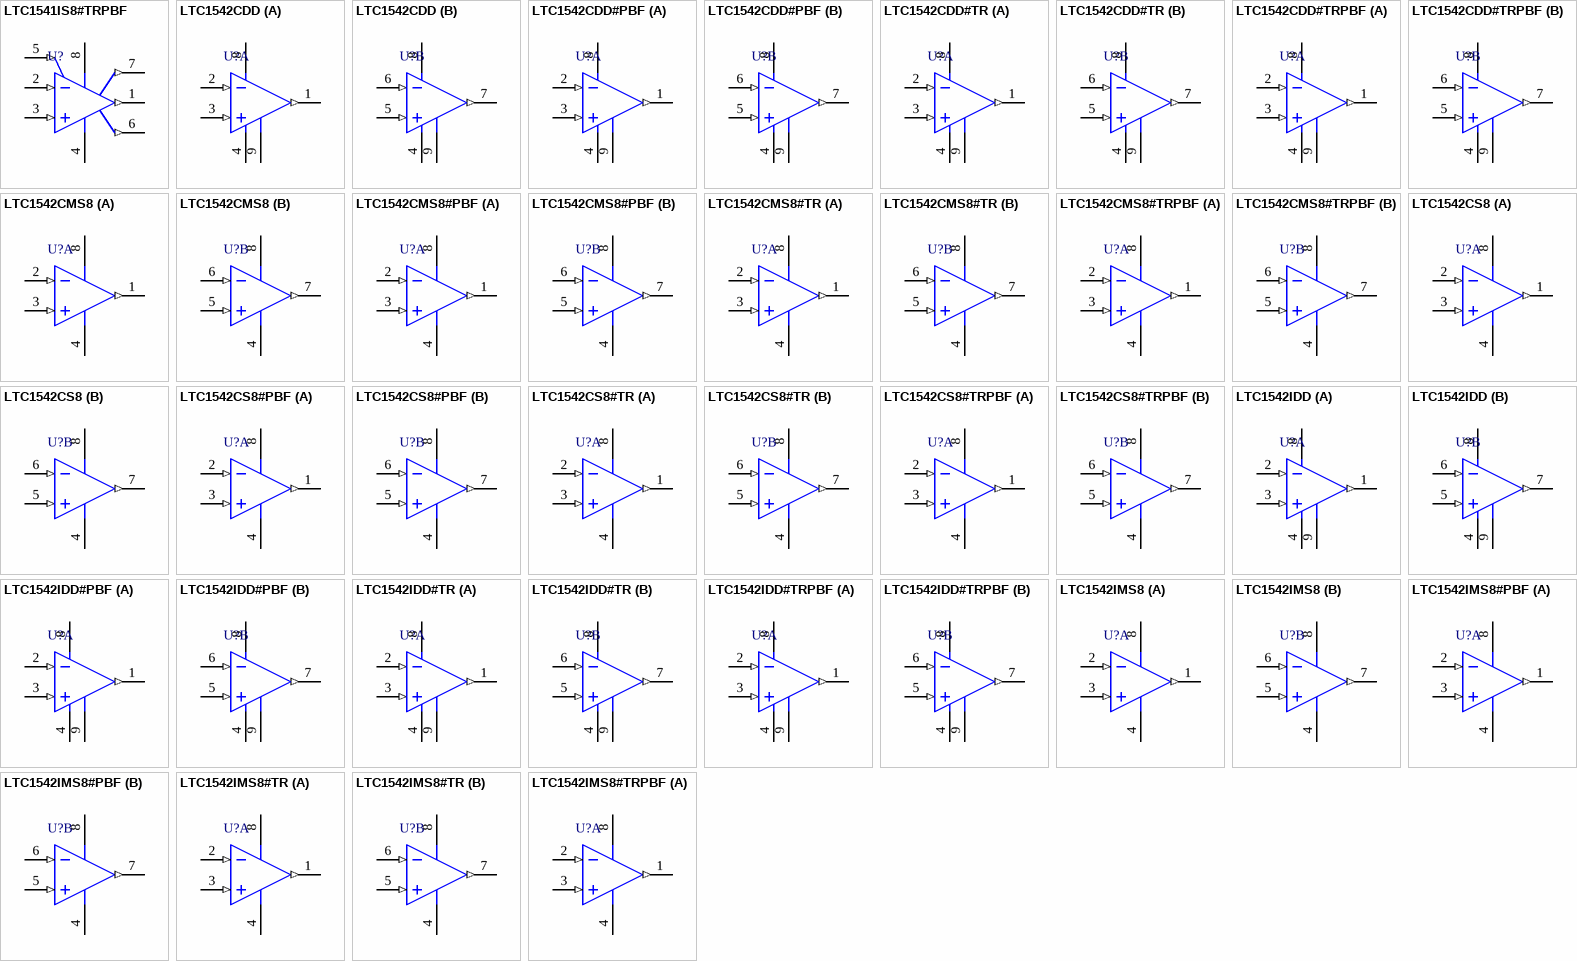
[diagram p21: symbols LTC1541IS8#TRPBF to LTC1542IMS8#TRPBF]

## LTC1541IS8#TRPBF
designator U?
Micropower Op Amp, Comparator and Reference, 1 Channel, 2.5 to 12.6 V, -40 to +85 degC, 8-pin SOP (S8), Tape and Reel; Generic Part Number: LTC1541; Manufacturer: Linear Technology; PartNumber: LTC1541IS8#TRPBF; Channels (#): 1; Prop Delay (us): 8; Supply Current (uA) Guaranteed: 10; Supply Current (uA) Typical: 5; Vs Max (V): 12.6; Vs Min (V): 2.5; DatasheetVersion: Rev D; PackageReference: S8; PackageDescription: 8-Pin Plastic Small Outline (Narrow .150 Inch), Body 4.9 x 3.9 mm, Pitch 1.27 mm; Supplier 1: Digi-Key; Supplier Part Number 1: LTC1541IS8#TRPBF-ND; Features: Reference, Op Amp, Comparator; RoHS: Y; Supply Voltage Range: 2.5 to 12.6 V; Vos (mV) Guaranteed: 1; Vos (mV) Typical: 1; Mounting Technology: Surface Mount; ComponentLink1Description: Manufacturer URL; ComponentLink1URL: http://www.linear.com/; ComponentLink2Description: Datasheet; ComponentLink2URL: http://cds.linear.com/docs/en/datasheet/15412fd.pdf; ComponentLink3Description: Package Specification; ComponentLink3URL: http://cds.linear.com/docs/en/packaging/05081610_G_SO8.pdf
footprint LT-S8_N (SOP, 8-Leads, Body 4.9x3.9mm, Pitch 1.27mm, IPC Medium Density)
footprint LT-S8_L (SOP, 8-Leads, Body 4.9x3.9mm, Pitch 1.27mm, IPC High Density)
footprint LT-S8_M (SOP, 8-Leads, Body 4.9x3.9mm, Pitch 1.27mm, IPC Low Density)
pins: 1 AMPOUT (out), 2 AMPIN- (in), 3 AMPIN+ (in), 4 VSS (power), 5 COMPIN+ (in), 6 REF (out), 7 COMPOUT (out), 8 VCC (power)

## LTC1542CDD
designator U?
Micropower Op Amp, Comparator and Reference, 1 Channel, 2.5 to 12.6 V, 0 to +70 degC, 8-pin Plastic DFN (DD8); Generic Part Number: LTC1542; Manufacturer: Linear Technology; PartNumber: LTC1542CDD; Channels (#): 1; Prop Delay (us): 8; Supply Current (uA) Guaranteed: 10; Supply Current (uA) Typical: 5; Vs Max (V): 12.6; Vs Min (V): 2.5; DatasheetVersion: Rev D; PackageReference: DD8; PackageDescription: 8-Pin Plastic DFN, Body 3 × 3 mm, Pitch 0.5 mm; Supplier 1: Digi-Key; Supplier Part Number 1: LTC1542CDD-ND; Features: Op Amp, Comparator; RoHS: N; Supply Voltage Range: 2.5 to 12.6 V; Vos (mV) Guaranteed: 1; Vos (mV) Typical: 1; Mounting Technology: Surface Mount; Code_JEDEC: M0-229; ComponentLink1Description: Manufacturer URL; ComponentLink1URL: http://www.linear.com/; ComponentLink2Description: Datasheet; ComponentLink2URL: http://cds.linear.com/docs/en/datasheet/15412fd.pdf; ComponentLink3Description: Package Specification; ComponentLink3URL: http://cds.linear.com/docs/en/packaging/DFN_8_05-08-1698.pdf
footprint LT-DD8_V (SON, 8-Leads, Body 3x3mm, Pitch 0.5mm, Thermal Pad 2.38x1.65mm)
pins on every part: 4 VSS (power) "Negative Supply or Ground Connection.", 8 VCC (power) "Positive Supply, 2.5V =< VCC =< 12.6V. The supply bypass capacitors are not required if the supply impedance is low. For single supply applications, it is a good general practice to bypass VCC with a 0.1uF capacitor to (See Datasheet)", 9 EP "Exposed Pad"
part A pins: 1 AMPOUT (out) "Op Amp Output. The output can swing from rail-to-rail while driving a capacitive load of up to 1000pF. The output can source and sink 0.7mA (min).", 2 AMPIN- (in) "Inverting Input of Op Amp. The input common mode ranges from VSS to (VCC - 1.3V). The input current is typically 10pA at 25degreesC.", 3 AMPIN+ (in) "Noninverting Input of Op Amp. The input common mode ranges from VSS to (VCC - 1.3V). The input current is typically 10pA at 25degreesC."
part B pins: 5 COMPIN+ (in) "Noninverting Input of Comparator. The input common mode ranges from VSS to (VCC - 1.3V). The input current is typically 10pA at 25degreesC.", 6 COMPIN- (in) "Inverting Input of Comparator. The input common mode ranges from VSS to (VCC - 1.3V). The input current is typically 10pA at 25degreesC.", 7 COMPOUT (out) "Comparator Output. The output can source 20mA and sink 5mA."

## LTC1542CDD#PBF
designator U?
Micropower Op Amp, Comparator and Reference, 1 Channel, 2.5 to 12.6 V, 0 to +70 degC, 8-pin Plastic DFN (DD8); Generic Part Number: LTC1542; Manufacturer: Linear Technology; PartNumber: LTC1542CDD#PBF; Channels (#): 1; Prop Delay (us): 8; Supply Current (uA) Guaranteed: 10; Supply Current (uA) Typical: 5; Vs Max (V): 12.6; Vs Min (V): 2.5; DatasheetVersion: Rev D; PackageReference: DD8; PackageDescription: 8-Pin Plastic DFN, Body 3 × 3 mm, Pitch 0.5 mm; Supplier 1: Digi-Key; Supplier Part Number 1: LTC1542CDD#PBF-ND; Features: Op Amp, Comparator; RoHS: Y; Supply Voltage Range: 2.5 to 12.6 V; Vos (mV) Guaranteed: 1; Vos (mV) Typical: 1; Mounting Technology: Surface Mount; Code_JEDEC: M0-229; ComponentLink1Description: Manufacturer URL; ComponentLink1URL: http://www.linear.com/; ComponentLink2Description: Datasheet; ComponentLink2URL: http://cds.linear.com/docs/en/datasheet/15412fd.pdf; ComponentLink3Description: Package Specification; ComponentLink3URL: http://cds.linear.com/docs/en/packaging/DFN_8_05-08-1698.pdf
footprint LT-DD8_V (SON, 8-Leads, Body 3x3mm, Pitch 0.5mm, Thermal Pad 2.38x1.65mm)
pins on every part: 4 VSS (power) "Negative Supply or Ground Connection.", 8 VCC (power) "Positive Supply, 2.5V =< VCC =< 12.6V. The supply bypass capacitors are not required if the supply impedance is low. For single supply applications, it is a good general practice to bypass VCC with a 0.1uF capacitor to (See Datasheet)", 9 EP "Exposed Pad"
part A pins: 1 AMPOUT (out) "Op Amp Output. The output can swing from rail-to-rail while driving a capacitive load of up to 1000pF. The output can source and sink 0.7mA (min).", 2 AMPIN- (in) "Inverting Input of Op Amp. The input common mode ranges from VSS to (VCC - 1.3V). The input current is typically 10pA at 25degreesC.", 3 AMPIN+ (in) "Noninverting Input of Op Amp. The input common mode ranges from VSS to (VCC - 1.3V). The input current is typically 10pA at 25degreesC."
part B pins: 5 COMPIN+ (in) "Noninverting Input of Comparator. The input common mode ranges from VSS to (VCC - 1.3V). The input current is typically 10pA at 25degreesC.", 6 COMPIN- (in) "Inverting Input of Comparator. The input common mode ranges from VSS to (VCC - 1.3V). The input current is typically 10pA at 25degreesC.", 7 COMPOUT (out) "Comparator Output. The output can source 20mA and sink 5mA."

## LTC1542CDD#TR
designator U?
Micropower Op Amp, Comparator and Reference, 1 Channel, 2.5 to 12.6 V, 0 to +70 degC, 8-pin Plastic DFN (DD8), Tape and Reel; Generic Part Number: LTC1542; Manufacturer: Linear Technology; PartNumber: LTC1542CDD#TR; Channels (#): 1; Prop Delay (us): 8; Supply Current (uA) Guaranteed: 10; Supply Current (uA) Typical: 5; Vs Max (V): 12.6; Vs Min (V): 2.5; DatasheetVersion: Rev D; PackageReference: DD8; PackageDescription: 8-Pin Plastic DFN, Body 3 × 3 mm, Pitch 0.5 mm; Supplier 1: Digi-Key; Supplier Part Number 1: LTC1542CDD#TR-ND; Features: Op Amp, Comparator; RoHS: N; Supply Voltage Range: 2.5 to 12.6 V; Vos (mV) Guaranteed: 1; Vos (mV) Typical: 1; Mounting Technology: Surface Mount; Code_JEDEC: M0-229; ComponentLink1Description: Manufacturer URL; ComponentLink1URL: http://www.linear.com/; ComponentLink2Description: Datasheet; ComponentLink2URL: http://cds.linear.com/docs/en/datasheet/15412fd.pdf; ComponentLink3Description: Package Specification; ComponentLink3URL: http://cds.linear.com/docs/en/packaging/DFN_8_05-08-1698.pdf
footprint LT-DD8_V (SON, 8-Leads, Body 3x3mm, Pitch 0.5mm, Thermal Pad 2.38x1.65mm)
pins on every part: 4 VSS (power) "Negative Supply or Ground Connection.", 8 VCC (power) "Positive Supply, 2.5V =< VCC =< 12.6V. The supply bypass capacitors are not required if the supply impedance is low. For single supply applications, it is a good general practice to bypass VCC with a 0.1uF capacitor to (See Datasheet)", 9 EP "Exposed Pad"
part A pins: 1 AMPOUT (out) "Op Amp Output. The output can swing from rail-to-rail while driving a capacitive load of up to 1000pF. The output can source and sink 0.7mA (min).", 2 AMPIN- (in) "Inverting Input of Op Amp. The input common mode ranges from VSS to (VCC - 1.3V). The input current is typically 10pA at 25degreesC.", 3 AMPIN+ (in) "Noninverting Input of Op Amp. The input common mode ranges from VSS to (VCC - 1.3V). The input current is typically 10pA at 25degreesC."
part B pins: 5 COMPIN+ (in) "Noninverting Input of Comparator. The input common mode ranges from VSS to (VCC - 1.3V). The input current is typically 10pA at 25degreesC.", 6 COMPIN- (in) "Inverting Input of Comparator. The input common mode ranges from VSS to (VCC - 1.3V). The input current is typically 10pA at 25degreesC.", 7 COMPOUT (out) "Comparator Output. The output can source 20mA and sink 5mA."

## LTC1542CDD#TRPBF
designator U?
Micropower Op Amp, Comparator and Reference, 1 Channel, 2.5 to 12.6 V, 0 to +70 degC, 8-pin Plastic DFN (DD8), Tape and Reel; Generic Part Number: LTC1542; Manufacturer: Linear Technology; PartNumber: LTC1542CDD#TRPBF; Channels (#): 1; Prop Delay (us): 8; Supply Current (uA) Guaranteed: 10; Supply Current (uA) Typical: 5; Vs Max (V): 12.6; Vs Min (V): 2.5; DatasheetVersion: Rev D; PackageReference: DD8; PackageDescription: 8-Pin Plastic DFN, Body 3 × 3 mm, Pitch 0.5 mm; Supplier 1: Digi-Key; Supplier Part Number 1: LTC1542CDD#TRPBF-ND; Features: Op Amp, Comparator; RoHS: Y; Supply Voltage Range: 2.5 to 12.6 V; Vos (mV) Guaranteed: 1; Vos (mV) Typical: 1; Mounting Technology: Surface Mount; Code_JEDEC: M0-229; ComponentLink1Description: Manufacturer URL; ComponentLink1URL: http://www.linear.com/; ComponentLink2Description: Datasheet; ComponentLink2URL: http://cds.linear.com/docs/en/datasheet/15412fd.pdf; ComponentLink3Description: Package Specification; ComponentLink3URL: http://cds.linear.com/docs/en/packaging/DFN_8_05-08-1698.pdf
footprint LT-DD8_V (SON, 8-Leads, Body 3x3mm, Pitch 0.5mm, Thermal Pad 2.38x1.65mm)
pins on every part: 4 VSS (power) "Negative Supply or Ground Connection.", 8 VCC (power) "Positive Supply, 2.5V =< VCC =< 12.6V. The supply bypass capacitors are not required if the supply impedance is low. For single supply applications, it is a good general practice to bypass VCC with a 0.1uF capacitor to (See Datasheet)", 9 EP "Exposed Pad"
part A pins: 1 AMPOUT (out) "Op Amp Output. The output can swing from rail-to-rail while driving a capacitive load of up to 1000pF. The output can source and sink 0.7mA (min).", 2 AMPIN- (in) "Inverting Input of Op Amp. The input common mode ranges from VSS to (VCC - 1.3V). The input current is typically 10pA at 25degreesC.", 3 AMPIN+ (in) "Noninverting Input of Op Amp. The input common mode ranges from VSS to (VCC - 1.3V). The input current is typically 10pA at 25degreesC."
part B pins: 5 COMPIN+ (in) "Noninverting Input of Comparator. The input common mode ranges from VSS to (VCC - 1.3V). The input current is typically 10pA at 25degreesC.", 6 COMPIN- (in) "Inverting Input of Comparator. The input common mode ranges from VSS to (VCC - 1.3V). The input current is typically 10pA at 25degreesC.", 7 COMPOUT (out) "Comparator Output. The output can source 20mA and sink 5mA."